# Altium footprint library diode.PcbLib: 63 footprints (part 2 of 4)
Each footprint in its own frame and in the unit in brackets; x right, y up, seen from the top. Pads: shape width x height; smd on the part's side, far side on the other; paste and mask are expansions set on the pad; w line width, h text height; cw(c..) or ccw(c..) is an arc to the next point about the centre after c.
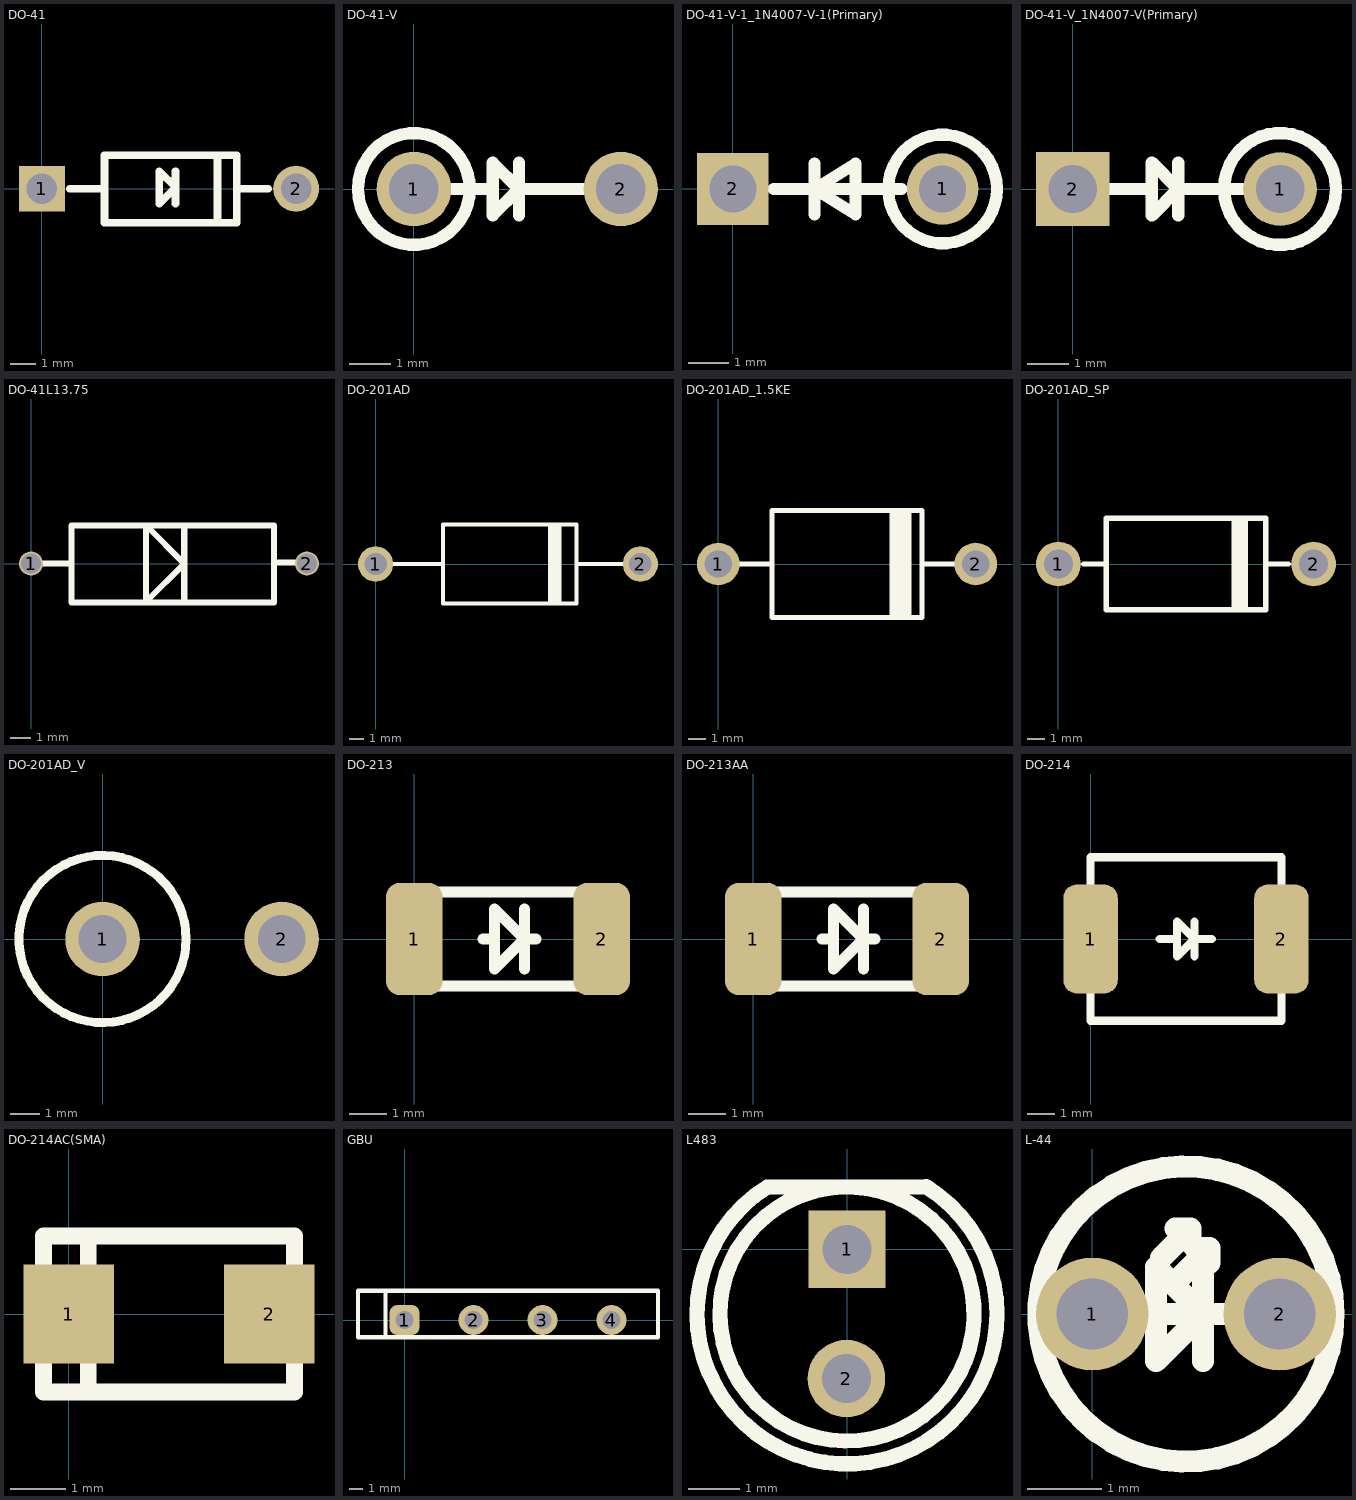
[diagram p1: the footprints below, top view; thin cyan lines are the x and y axes]

## DO-41 [mm]
pads (2):
  rect 1.8x1.8 hole 1.2: 1(0,0)
  round 1.8 hole 1.2: 2(10,0)
Top Overlay:
  lines w0.3: 1.1,0 2.4,0 ; 5.258,-0.584 5.258,0.686 ; 6.909,-1.346 6.909,1.321 ; 7.7,0 8.9,0 ; 2.464,-1.346 7.671,-1.346 7.671,1.321 2.464,1.321 2.464,-1.346 ; 4.623,-0.584 5.258,0.051 4.623,0.686 4.623,-0.584

## DO-41-V [mm]
pads (2):
  round 1.8 hole 1.2: 1(0,0) 2(5,0)
Top Overlay:
  circle w0.3: c0,0 r1.35
  lines w0.3: 0,0 1.905,0 ; 2.54,-0.635 2.54,0.635 ; 5.08,0 2.54,0 ; 2.54,0 1.905,0.635 1.905,-0.635 2.54,0
3D body "User Library-DO-41 Vert 5_08mm.step": height 9.43, standoff -2.2, extent -1.355,-1.4 5.505,1.3

## DO-41-V-1_1N4007-V-1(Primary) [mil]
pads (2):
  round 70 hole 46: 1(205,0)
  rect 70x70 hole 46: 2(0,0)
Top Overlay:
  circle w11.81: c205,0 r53.15
  lines w11.81: 40,0 165,0 ; 80,-25 80,25 ; 80,0 120,25 120,-25 80,0
3D body "User Library-DO-41 Vert 5_08mm.step": height 371.26, standoff -86.61, extent -14.96,-53.15 255.12,53.15

## DO-41-V_1N4007-V(Primary) [mil]
pads (2):
  round 70 hole 46: 1(196.85,0)
  rect 70x70 hole 46: 2(0,0)
Top Overlay:
  circle w11.81: c196.85,0 r53.15
  lines w11.81: 0,0 75,0 ; 100,-25 100,25 ; 200,0 100,0 ; 100,0 75,25 75,-25 100,0

## DO-41L13.75 [mm]
pads (2):
  round 1.2 hole 1: 1(0,0) 2(13.75,0)
Top Overlay:
  lines w0.3: -0.16,0 2.01,0 ; 7.635,-1.905 7.635,1.905 ; 12.11,0.05 13.81,0.05 ; 2.01,-1.95 12.11,-1.95 12.11,1.9 2.01,1.9 2.01,-1.95 ; 5.73,-1.905 7.635,0 5.73,1.905 5.73,-1.905

## DO-201AD [mm]
pads (2):
  round 2.5 hole 1.6: 1(0,0) 2(18.84,0)
Top Overlay:
  region: 12.3,2.8 12.3,-2.8 13.2,-2.8 13.2,2.8
  lines w0.3: 1.3,0 4.8,0 ; 14.3,0 17.8,0 ; 4.8,-2.8 4.8,2.8 14.3,2.8 14.3,-2.8 4.8,-2.8
3D body "User Library-DO-201ADDO-27.step": height 6.82, standoff -2.8, extent -0.645,-2.795 19.495,2.845

## DO-201AD_1.5KE [mm]
pads (2):
  round 2.5 hole 1.6: 1(0,0) 2(15.12,0)
Top Overlay:
  region: 10.08,3.15 10.08,-3.15 11.34,-3.15 11.34,3.15
  lines w0.3: 1.26,0 3.15,0 ; 11.97,0 13.86,0 ; 3.15,-3.15 3.15,3.15 11.97,3.15 11.97,-3.15 3.15,-3.15

## DO-201AD_SP [mm]
pads (2):
  round 2.5 hole 1.6: 1(0,0) 2(14.224,0)
Top Overlay:
  region: 9.652,2.54 9.652,-2.54 10.541,-2.54 10.541,2.54
  lines w0.3: 1.397,0 2.667,0 ; 11.557,0 12.827,0 ; 2.667,-2.54 2.667,2.54 11.557,2.54 11.557,-2.54 2.667,-2.54

## DO-201AD_V [mm]
pads (2):
  round 2.5 hole 1.6: 1(0,0) 2(6,0)
Top Overlay:
  circle w0.3: c0,0 r2.8
3D body "User Library-DO-201AV-Vertical_200.STEP": height 15.69, standoff -3, extent -2.755,-2.9 6.755,2.8

## DO-213 [mm]
pads (2):
  rrect50% 1.5x3 smd: 1(0,0) 2(5,0)
Top Overlay:
  lines w0.3: 1.84,0 2.14,0 ; 2.94,-0.8 2.94,0.8 ; 3.24,0 2.94,0 ; 2.14,0 2.14,-0.8 2.94,0 ; 2.14,0 2.14,0.8 2.94,0 ; 0,-1.25 5,-1.25 5,1.25 0,1.25 0,-1.25
3D body "User Library-Vishay - MELF DO-213AB.SLDPRT": height 2.64, standoff -0.04, extent -0.06,-1.4 5.14,1.27

## DO-213AA [mm]
pads (2):
  rrect50% 1.5x3 smd: 1(0,0) 2(5,0)
Top Overlay:
  lines w0.3: 1.84,0 2.14,0 ; 2.94,-0.8 2.94,0.8 ; 3.24,0 2.94,0 ; 2.14,0 2.14,0.8 2.94,0 ; 2.14,0 2.14,-0.8 2.94,0 ; 0,-1.25 0,1.25 5,1.25 5,-1.25 0,-1.25
3D body "User Library-Vishay - MELF DO-213AB.SLDPRT": height 2.64, standoff -0.04, extent -0.187,-1.4 5.013,1.27

## DO-214 [mm]
pads (2):
  rrect50% 2x4 smd: 1(0,0) 2(7,0)
Top Overlay:
  lines w0.3: 2.54,0 3.175,0 ; 3.81,-0.635 3.81,0.635 ; 4.445,0 3.81,0 ; 3.81,0 3.175,0.635 3.175,-0.635 3.81,0 ; 0,-3 0,3 7,3 7,-3 0,-3

## DO-214AC(SMA) [mm]
pads (2):
  rect 1.62x1.78 smd: 1(0,0) 2(3.6,0)
Top Overlay:
  lines w0.3: 0.35,-1.4 0.35,1.4 ; -0.45,-1.4 -0.45,1.4 4.05,1.4 4.05,-1.4 -0.45,-1.4
3D body "User Library-DO-214AC SMA.step": height 2.35, standoff -0.05, extent -0.8,-1.3 4.4,1.3

## GBU [mm]
pads (4):
  rrect50% 2.2x2.2 hole 1.3: 1(0,0)
  round 2.2 hole 1.3: 2(5.08,0) 3(10.16,0) 4(15.24,0)
Top Overlay:
  lines w0.3: -1.397,-1.27 -1.397,2.159 ; -3.429,-1.27 18.669,-1.27 18.669,2.159 -3.429,2.159 -3.429,-1.27

## L483 [mil]
pads (2):
  rect 60x60 hole 38: 1(0,0)
  round 60 hole 38: 2(-0.39,-100)
Top Overlay:
  lines w11.81: -61.89,48.28 ccw(c0,-50) 61.2,48.71 ; -61.02,48.43 61.02,48.43 ; 98.32,-54.64 cw(c0,-50) 98.35,-53.95

## L-44 [mil]
pads (2):
  round 60 hole 38: 1(0,0) 2(100,0)
Top Overlay:
  circle w11.81: c50,0 r78.74
  lines w11.81: 9.06,0 84.06,0 ; 36.61,29.92 52.36,45.67 ; 44.49,45.67 52.36,45.67 ; 46.85,19.49 62.6,35.24 ; 52.36,37.8 52.36,45.67 ; 54.72,35.24 62.6,35.24 ; 59.06,-25 59.06,25 ; 62.6,27.36 62.6,35.24 ; 34.06,-25 34.06,25 59.06,0 34.06,-25